# Altium footprint library 4.10-GH1.25连接器.PcbLib: 32 footprints (part 1 of 2)
Each footprint in its own frame and in the unit in brackets; x right, y up, seen from the top. Pads: shape width x height; smd on the part's side, far side on the other; paste and mask are expansions set on the pad; w line width, h text height; cw(c..) or ccw(c..) is an arc to the next point about the centre after c.
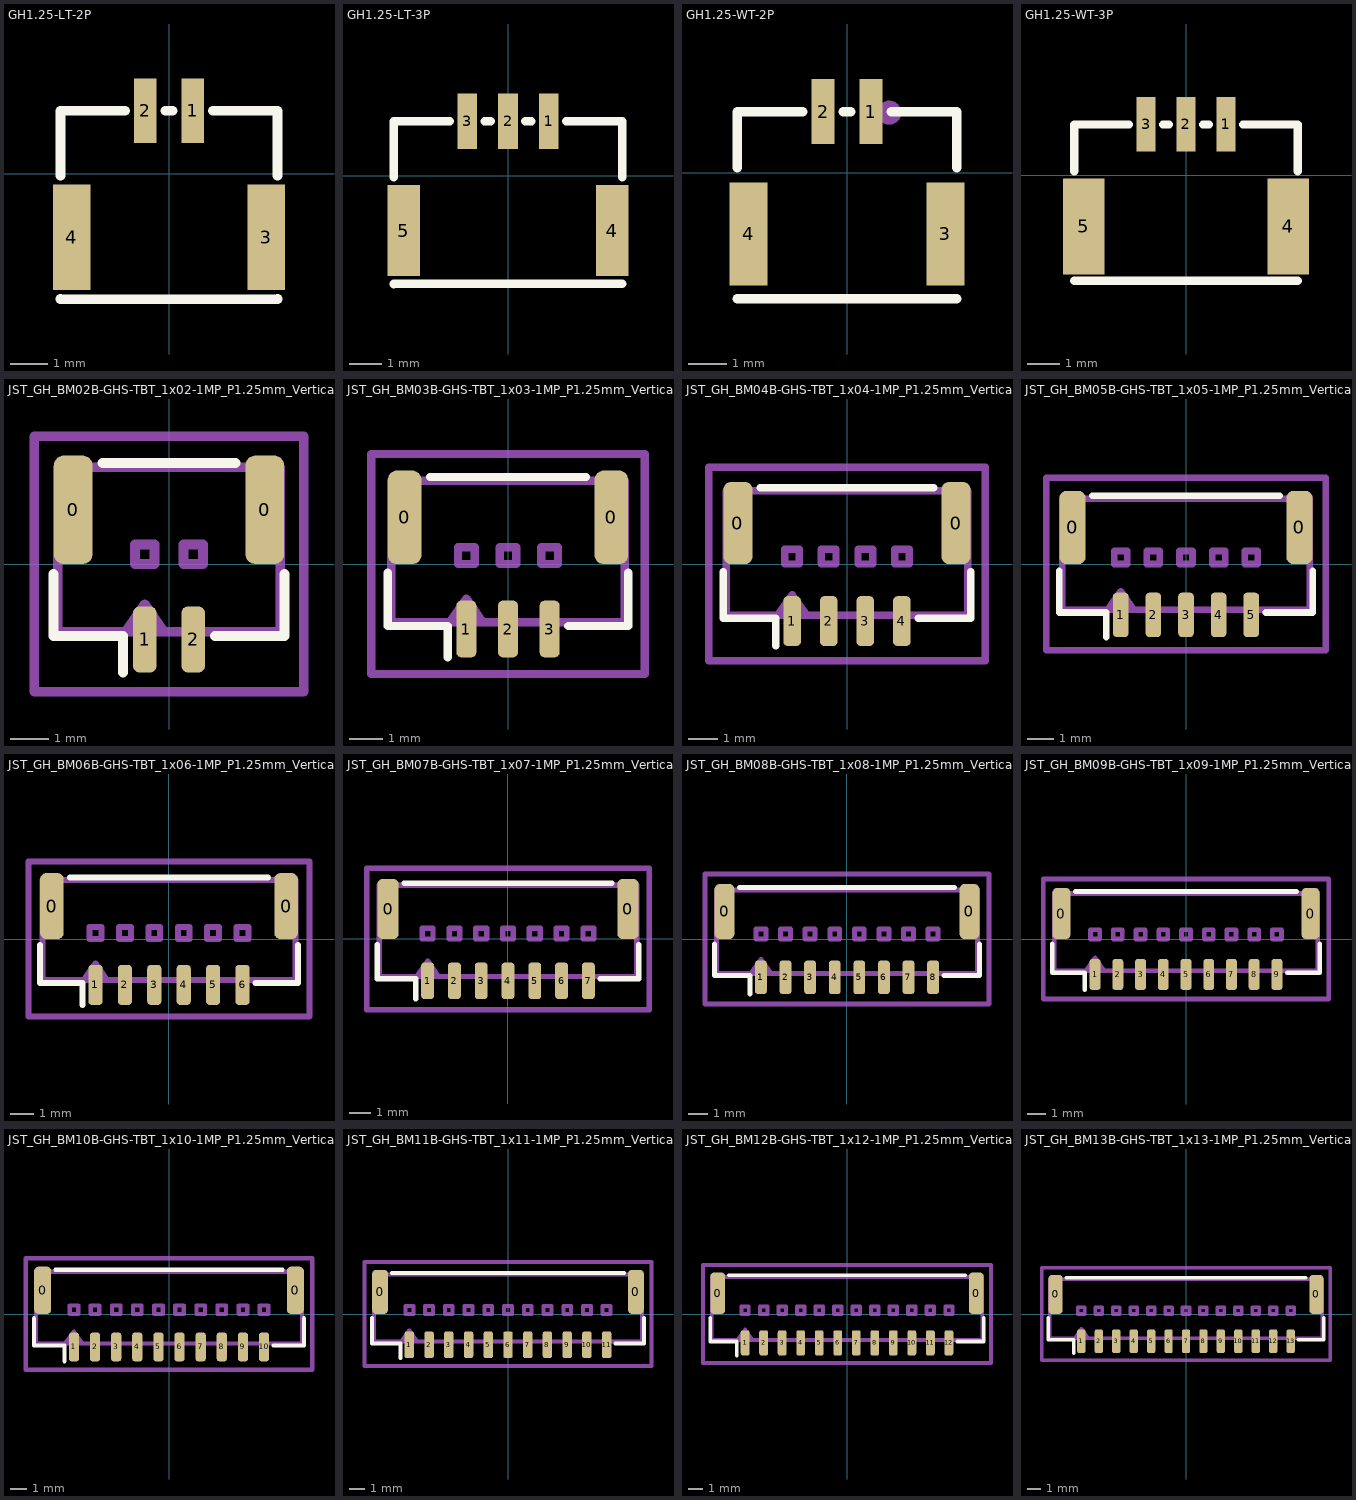
[diagram p0: the footprints below, top view; thin cyan lines are the x and y axes]

## GH1.25-LT-2P [mm] "GH1.25 2P 立贴插座                   联系卖家 免费查找封装"
pads (4):
  rect 0.6x1.7 smd: 1(0.625,1.675) 2(-0.625,1.675)
  rect 1x2.8 smd: 3(2.575,-1.675) 4(-2.575,-1.675)
Top Overlay:
  lines w0.254: -2.875,-3.306 -2.875,-3.325 2.875,-3.325 2.875,-3.306 ; -2.875,-0.044 -2.875,1.675 -1.156,1.675 ; -0.094,1.675 0.094,1.675 ; 1.156,1.675 2.875,1.675 2.875,-0.044
3D body "GH1.25-LT-2P.stp": height 4.06, standoff 0, extent -2.875,-2.884 2.875,2.076

## GH1.25-LT-3P [mm] "GH1.25 3P 立贴插座                   联系卖家 免费查找封装"
pads (5):
  rect 0.6x1.7 smd: 1(1.25,1.675) 2(0,1.675) 3(-1.25,1.675)
  rect 1x2.8 smd: 4(3.2,-1.675) 5(-3.2,-1.675)
Top Overlay:
  lines w0.254: -3.5,-3.325 -3.5,-3.306 3.5,-3.306 ; -3.5,-0.044 -3.5,1.675 -1.781,1.675 ; -0.719,1.675 -0.531,1.675 ; 0.531,1.675 0.719,1.675 ; 1.781,1.675 3.5,1.675 3.5,-0.044
3D body "GH1.25-LT-3P.stp": height 4.06, standoff 0, extent -3.5,-2.881 3.5,2.079

## GH1.25-WT-2P [mm] "GH1.25 2P 卧贴插座                   联系卖家 免费查找封装"
pads (4):
  rect 0.6x1.7 smd: 1(0.625,1.6) 2(-0.625,1.6)
  rect 1x2.7 smd: 3(2.575,-1.6) 4(-2.575,-1.6)
Top Overlay:
  lines w0.254: -2.875,-3.3 2.875,-3.3 ; -2.875,0.131 -2.875,1.6 -1.156,1.6 ; -0.094,1.6 0.094,1.6 ; 1.156,1.6 2.875,1.6 2.875,0.131
Mechanical 15:
  circle w0.254: c1.105,1.574 r0.187
3D body "GH1.25-WT-2P.stp": height 4.26, standoff 0, extent -2.874,-2.856 2.875,2.003

## GH1.25-WT-3P [mm] "GH1.25 2P 卧贴插座                   联系卖家 免费查找封装"
pads (5):
  rect 0.6x1.7 smd: 1(1.25,1.6) 2(0,1.6) 3(-1.25,1.6)
  rect 1.3x3 smd: 4(3.2,-1.6) 5(-3.2,-1.6)
Top Overlay:
  lines w0.254: -3.5,-3.3 3.5,-3.3 ; -3.5,0.131 -3.5,1.6 -1.781,1.6 ; -0.719,1.6 -0.531,1.6 ; 0.531,1.6 0.719,1.6 ; 1.78,1.6 3.5,1.6 3.5,0.131
3D body "GH1.25-WT-3P.stp": height 4.26, standoff 0, extent -3.499,-2.856 3.499,2.003

## JST_GH_BM02B-GHS-TBT_1x02-1MP_P1.25mm_Vertical [mm]
pads (4):
  rrect50% 1x2.8 smd paste+0 mask+0: 0(-2.475,1.4) 0(2.475,1.4)
  rrect50% 0.6x1.7 smd paste+0 mask+0: 1(-0.625,-1.95) 2(0.625,-1.95)
Top Overlay:
  lines w0.254: -2.985,-0.26 -2.985,-1.86 -1.185,-1.86 -1.185,-2.8 ; -1.715,2.61 1.715,2.61 ; 1.185,-1.86 2.985,-1.86 2.985,-0.26
Mechanical 6:
  lines w0.254: -3.48,-3.3 3.48,-3.3 3.48,3.3 -3.48,3.3 -3.48,-3.3
Mechanical 15:
  lines w0.254: -1.125,-1.75 -0.625,-1.043 -0.125,-1.75 ; -2.875,-1.75 2.875,-1.75 2.875,2.5 -2.875,2.5 -2.875,-1.75 ; -0.875,0 -0.375,0 -0.375,0.5 -0.875,0.5 -0.875,0 ; 0.375,0 0.875,0 0.875,0.5 0.375,0.5 0.375,0

## JST_GH_BM03B-GHS-TBT_1x03-1MP_P1.25mm_Vertical [mm]
pads (5):
  rrect50% 1x2.8 smd paste+0 mask+0: 0(-3.1,1.4) 0(3.1,1.4)
  rrect50% 0.6x1.7 smd paste+0 mask+0: 1(-1.25,-1.95) 2(0,-1.95) 3(1.25,-1.95)
Top Overlay:
  lines w0.254: -3.61,-0.26 -3.61,-1.86 -1.81,-1.86 -1.81,-2.8 ; -2.34,2.61 2.34,2.61 ; 1.81,-1.86 3.61,-1.86 3.61,-0.26
Mechanical 6:
  lines w0.254: -4.1,-3.3 -4.1,3.3 4.1,3.3 4.1,-3.3 -4.1,-3.3
Mechanical 15:
  lines w0.254: -1.75,-1.75 -1.25,-1.043 -0.75,-1.75 ; -3.5,-1.75 -3.5,2.5 3.5,2.5 3.5,-1.75 -3.5,-1.75 ; -1.5,0 -1.5,0.5 -1,0.5 -1,0 -1.5,0 ; -0.25,0 -0.25,0.5 0.25,0.5 0.25,0 -0.25,0 ; 1,0 1,0.5 1.5,0.5 1.5,0 1,0

## JST_GH_BM04B-GHS-TBT_1x04-1MP_P1.25mm_Vertical [mm]
pads (6):
  rrect50% 1x2.8 smd paste+0 mask+0: 0(-3.725,1.4) 0(3.725,1.4)
  rrect50% 0.6x1.7 smd paste+0 mask+0: 1(-1.875,-1.95) 2(-0.625,-1.95) 3(0.625,-1.95) 4(1.875,-1.95)
Top Overlay:
  lines w0.254: -4.235,-0.26 -4.235,-1.86 -2.435,-1.86 -2.435,-2.8 ; -2.965,2.61 2.965,2.61 ; 2.435,-1.86 4.235,-1.86 4.235,-0.26
Mechanical 6:
  lines w0.254: -4.72,-3.3 -4.72,3.3 4.72,3.3 4.72,-3.3 -4.72,-3.3
Mechanical 15:
  lines w0.254: -2.375,-1.75 -1.875,-1.043 -1.375,-1.75 ; -4.125,-1.75 -4.125,2.5 4.125,2.5 4.125,-1.75 -4.125,-1.75 ; -2.125,0 -2.125,0.5 -1.625,0.5 -1.625,0 -2.125,0 ; -0.875,0 -0.875,0.5 -0.375,0.5 -0.375,0 -0.875,0 ; 0.375,0 0.375,0.5 0.875,0.5 0.875,0 0.375,0 ; 1.625,0 1.625,0.5 2.125,0.5 2.125,0 1.625,0

## JST_GH_BM05B-GHS-TBT_1x05-1MP_P1.25mm_Vertical [mm]
pads (7):
  rrect50% 1x2.8 smd paste+0 mask+0: 0(-4.35,1.4) 0(4.35,1.4)
  rrect50% 0.6x1.7 smd paste+0 mask+0: 1(-2.5,-1.95) 2(-1.25,-1.95) 3(0,-1.95) 4(1.25,-1.95) 5(2.5,-1.95)
Top Overlay:
  lines w0.254: -4.86,-0.26 -4.86,-1.86 -3.06,-1.86 -3.06,-2.8 ; -3.59,2.61 3.59,2.61 ; 3.06,-1.86 4.86,-1.86 4.86,-0.26
Mechanical 6:
  lines w0.254: -5.35,-3.3 -5.35,3.3 5.35,3.3 5.35,-3.3 -5.35,-3.3
Mechanical 15:
  lines w0.254: -3,-1.75 -2.5,-1.043 -2,-1.75 ; -4.75,-1.75 -4.75,2.5 4.75,2.5 4.75,-1.75 -4.75,-1.75 ; -2.75,0 -2.75,0.5 -2.25,0.5 -2.25,0 -2.75,0 ; -1.5,0 -1.5,0.5 -1,0.5 -1,0 -1.5,0 ; -0.25,0 -0.25,0.5 0.25,0.5 0.25,0 -0.25,0 ; 1,0 1,0.5 1.5,0.5 1.5,0 1,0 ; 2.25,0 2.25,0.5 2.75,0.5 2.75,0 2.25,0

## JST_GH_BM06B-GHS-TBT_1x06-1MP_P1.25mm_Vertical [mm]
pads (8):
  rrect50% 1x2.8 smd paste+0 mask+0: 0(-4.975,1.4) 0(4.975,1.4)
  rrect50% 0.6x1.7 smd paste+0 mask+0: 1(-3.125,-1.95) 2(-1.875,-1.95) 3(-0.625,-1.95) 4(0.625,-1.95) 5(1.875,-1.95) 6(3.125,-1.95)
Top Overlay:
  lines w0.254: -5.485,-0.26 -5.485,-1.86 -3.685,-1.86 -3.685,-2.8 ; -4.215,2.61 4.215,2.61 ; 3.685,-1.86 5.485,-1.86 5.485,-0.26
Mechanical 6:
  lines w0.254: -5.98,-3.3 -5.98,3.3 5.98,3.3 5.98,-3.3 -5.98,-3.3
Mechanical 15:
  lines w0.254: -3.625,-1.75 -3.125,-1.043 -2.625,-1.75 ; -5.375,-1.75 -5.375,2.5 5.375,2.5 5.375,-1.75 -5.375,-1.75 ; -3.375,0 -3.375,0.5 -2.875,0.5 -2.875,0 -3.375,0 ; -2.125,0 -2.125,0.5 -1.625,0.5 -1.625,0 -2.125,0 ; -0.875,0 -0.875,0.5 -0.375,0.5 -0.375,0 -0.875,0 ; 0.375,0 0.375,0.5 0.875,0.5 0.875,0 0.375,0 ; 1.625,0 1.625,0.5 2.125,0.5 2.125,0 1.625,0 ; 2.875,0 2.875,0.5 3.375,0.5 3.375,0 2.875,0

## JST_GH_BM07B-GHS-TBT_1x07-1MP_P1.25mm_Vertical [mm]
pads (9):
  rrect50% 1x2.8 smd paste+0 mask+0: 0(-5.6,1.4) 0(5.6,1.4)
  rrect50% 0.6x1.7 smd paste+0 mask+0: 1(-3.75,-1.95) 2(-2.5,-1.95) 3(-1.25,-1.95) 4(0,-1.95) 5(1.25,-1.95) 6(2.5,-1.95) 7(3.75,-1.95)
Top Overlay:
  lines w0.254: -6.11,-0.26 -6.11,-1.86 -4.31,-1.86 -4.31,-2.8 ; -4.84,2.61 4.84,2.61 ; 4.31,-1.86 6.11,-1.86 6.11,-0.26
Mechanical 6:
  lines w0.254: -6.6,-3.3 -6.6,3.3 6.6,3.3 6.6,-3.3 -6.6,-3.3
Mechanical 15:
  lines w0.254: -4.25,-1.75 -3.75,-1.043 -3.25,-1.75 ; -6,-1.75 -6,2.5 6,2.5 6,-1.75 -6,-1.75 ; -4,0 -4,0.5 -3.5,0.5 -3.5,0 -4,0 ; -2.75,0 -2.75,0.5 -2.25,0.5 -2.25,0 -2.75,0 ; -1.5,0 -1.5,0.5 -1,0.5 -1,0 -1.5,0 ; -0.25,0 -0.25,0.5 0.25,0.5 0.25,0 -0.25,0 ; 1,0 1,0.5 1.5,0.5 1.5,0 1,0 ; 2.25,0 2.25,0.5 2.75,0.5 2.75,0 2.25,0 ; 3.5,0 3.5,0.5 4,0.5 4,0 3.5,0

## JST_GH_BM08B-GHS-TBT_1x08-1MP_P1.25mm_Vertical [mm]
pads (10):
  rrect50% 1x2.8 smd paste+0 mask+0: 0(-6.225,1.4) 0(6.225,1.4)
  rrect50% 0.6x1.7 smd paste+0 mask+0: 1(-4.375,-1.95) 2(-3.125,-1.95) 3(-1.875,-1.95) 4(-0.625,-1.95) 5(0.625,-1.95) 6(1.875,-1.95) 7(3.125,-1.95) 8(4.375,-1.95)
Top Overlay:
  lines w0.254: -6.735,-0.26 -6.735,-1.86 -4.935,-1.86 -4.935,-2.8 ; -5.465,2.61 5.465,2.61 ; 4.935,-1.86 6.735,-1.86 6.735,-0.26
Mechanical 6:
  lines w0.254: -7.22,-3.3 -7.22,3.3 7.22,3.3 7.22,-3.3 -7.22,-3.3
Mechanical 15:
  lines w0.254: -4.875,-1.75 -4.375,-1.043 -3.875,-1.75 ; -6.625,-1.75 -6.625,2.5 6.625,2.5 6.625,-1.75 -6.625,-1.75 ; -4.625,0 -4.625,0.5 -4.125,0.5 -4.125,0 -4.625,0 ; -3.375,0 -3.375,0.5 -2.875,0.5 -2.875,0 -3.375,0 ; -2.125,0 -2.125,0.5 -1.625,0.5 -1.625,0 -2.125,0 ; -0.875,0 -0.875,0.5 -0.375,0.5 -0.375,0 -0.875,0 ; 0.375,0 0.375,0.5 0.875,0.5 0.875,0 0.375,0 ; 1.625,0 1.625,0.5 2.125,0.5 2.125,0 1.625,0 ; 2.875,0 2.875,0.5 3.375,0.5 3.375,0 2.875,0 ; 4.125,0 4.125,0.5 4.625,0.5 4.625,0 4.125,0

## JST_GH_BM09B-GHS-TBT_1x09-1MP_P1.25mm_Vertical [mm]
pads (11):
  rrect50% 1x2.8 smd paste+0 mask+0: 0(-6.85,1.4) 0(6.85,1.4)
  rrect50% 0.6x1.7 smd paste+0 mask+0: 1(-5,-1.95) 2(-3.75,-1.95) 3(-2.5,-1.95) 4(-1.25,-1.95) 5(0,-1.95) 6(1.25,-1.95) 7(2.5,-1.95) 8(3.75,-1.95) 9(5,-1.95)
Top Overlay:
  lines w0.254: -7.36,-0.26 -7.36,-1.86 -5.56,-1.86 -5.56,-2.8 ; -6.09,2.61 6.09,2.61 ; 5.56,-1.86 7.36,-1.86 7.36,-0.26
Mechanical 6:
  lines w0.254: -7.85,-3.3 -7.85,3.3 7.85,3.3 7.85,-3.3 -7.85,-3.3
Mechanical 15:
  lines w0.254: -5.5,-1.75 -5,-1.043 -4.5,-1.75 ; -7.25,-1.75 -7.25,2.5 7.25,2.5 7.25,-1.75 -7.25,-1.75 ; -5.25,0 -5.25,0.5 -4.75,0.5 -4.75,0 -5.25,0 ; -4,0 -4,0.5 -3.5,0.5 -3.5,0 -4,0 ; -2.75,0 -2.75,0.5 -2.25,0.5 -2.25,0 -2.75,0 ; -1.5,0 -1.5,0.5 -1,0.5 -1,0 -1.5,0 ; -0.25,0 -0.25,0.5 0.25,0.5 0.25,0 -0.25,0 ; 1,0 1,0.5 1.5,0.5 1.5,0 1,0 ; 2.25,0 2.25,0.5 2.75,0.5 2.75,0 2.25,0 ; 3.5,0 3.5,0.5 4,0.5 4,0 3.5,0 ; 4.75,0 4.75,0.5 5.25,0.5 5.25,0 4.75,0

## JST_GH_BM10B-GHS-TBT_1x10-1MP_P1.25mm_Vertical [mm]
pads (12):
  rrect50% 1x2.8 smd paste+0 mask+0: 0(-7.475,1.4) 0(7.475,1.4)
  rrect50% 0.6x1.7 smd paste+0 mask+0: 1(-5.625,-1.95) 2(-4.375,-1.95) 3(-3.125,-1.95) 4(-1.875,-1.95) 5(-0.625,-1.95) 6(0.625,-1.95) 7(1.875,-1.95) 8(3.125,-1.95) 9(4.375,-1.95) 10(5.625,-1.95)
Top Overlay:
  lines w0.254: -7.985,-0.26 -7.985,-1.86 -6.185,-1.86 -6.185,-2.8 ; -6.715,2.61 6.715,2.61 ; 6.185,-1.86 7.985,-1.86 7.985,-0.26
Mechanical 6:
  lines w0.254: -8.48,-3.3 -8.48,3.3 8.48,3.3 8.48,-3.3 -8.48,-3.3
Mechanical 15:
  lines w0.254: -6.125,-1.75 -5.625,-1.043 -5.125,-1.75 ; -7.875,-1.75 -7.875,2.5 7.875,2.5 7.875,-1.75 -7.875,-1.75 ; -5.875,0 -5.875,0.5 -5.375,0.5 -5.375,0 -5.875,0 ; -4.625,0 -4.625,0.5 -4.125,0.5 -4.125,0 -4.625,0 ; -3.375,0 -3.375,0.5 -2.875,0.5 -2.875,0 -3.375,0 ; -2.125,0 -2.125,0.5 -1.625,0.5 -1.625,0 -2.125,0 ; -0.875,0 -0.875,0.5 -0.375,0.5 -0.375,0 -0.875,0 ; 0.375,0 0.375,0.5 0.875,0.5 0.875,0 0.375,0 ; 1.625,0 1.625,0.5 2.125,0.5 2.125,0 1.625,0 ; 2.875,0 2.875,0.5 3.375,0.5 3.375,0 2.875,0 ; 4.125,0 4.125,0.5 4.625,0.5 4.625,0 4.125,0 ; 5.375,0 5.375,0.5 5.875,0.5 5.875,0 5.375,0

## JST_GH_BM11B-GHS-TBT_1x11-1MP_P1.25mm_Vertical [mm]
pads (13):
  rrect50% 1x2.8 smd paste+0 mask+0: 0(-8.1,1.4) 0(8.1,1.4)
  rrect50% 0.6x1.7 smd paste+0 mask+0: 1(-6.25,-1.95) 2(-5,-1.95) 3(-3.75,-1.95) 4(-2.5,-1.95) 5(-1.25,-1.95) 6(0,-1.95) 7(1.25,-1.95) 8(2.5,-1.95) 9(3.75,-1.95) 10(5,-1.95) 11(6.25,-1.95)
Top Overlay:
  lines w0.254: -8.61,-0.26 -8.61,-1.86 -6.81,-1.86 -6.81,-2.8 ; -7.34,2.61 7.34,2.61 ; 6.81,-1.86 8.61,-1.86 8.61,-0.26
Mechanical 6:
  lines w0.254: -9.1,-3.3 -9.1,3.3 9.1,3.3 9.1,-3.3 -9.1,-3.3
Mechanical 15:
  lines w0.254: -6.75,-1.75 -6.25,-1.043 -5.75,-1.75 ; -8.5,-1.75 -8.5,2.5 8.5,2.5 8.5,-1.75 -8.5,-1.75 ; -6.5,0 -6.5,0.5 -6,0.5 -6,0 -6.5,0 ; -5.25,0 -5.25,0.5 -4.75,0.5 -4.75,0 -5.25,0 ; -4,0 -4,0.5 -3.5,0.5 -3.5,0 -4,0 ; -2.75,0 -2.75,0.5 -2.25,0.5 -2.25,0 -2.75,0 ; -1.5,0 -1.5,0.5 -1,0.5 -1,0 -1.5,0 ; -0.25,0 -0.25,0.5 0.25,0.5 0.25,0 -0.25,0 ; 1,0 1,0.5 1.5,0.5 1.5,0 1,0 ; 2.25,0 2.25,0.5 2.75,0.5 2.75,0 2.25,0 ; 3.5,0 3.5,0.5 4,0.5 4,0 3.5,0 ; 4.75,0 4.75,0.5 5.25,0.5 5.25,0 4.75,0 ; 6,0 6,0.5 6.5,0.5 6.5,0 6,0

## JST_GH_BM12B-GHS-TBT_1x12-1MP_P1.25mm_Vertical [mm]
pads (14):
  rrect50% 1x2.8 smd paste+0 mask+0: 0(-8.725,1.4) 0(8.725,1.4)
  rrect50% 0.6x1.7 smd paste+0 mask+0: 1(-6.875,-1.95) 2(-5.625,-1.95) 3(-4.375,-1.95) 4(-3.125,-1.95) 5(-1.875,-1.95) 6(-0.625,-1.95) 7(0.625,-1.95) 8(1.875,-1.95) 9(3.125,-1.95) 10(4.375,-1.95) 11(5.625,-1.95) 12(6.875,-1.95)
Top Overlay:
  lines w0.254: -9.235,-0.26 -9.235,-1.86 -7.435,-1.86 -7.435,-2.8 ; -7.965,2.61 7.965,2.61 ; 7.435,-1.86 9.235,-1.86 9.235,-0.26
Mechanical 6:
  lines w0.254: -9.72,-3.3 -9.72,3.3 9.72,3.3 9.72,-3.3 -9.72,-3.3
Mechanical 15:
  lines w0.254: -7.375,-1.75 -6.875,-1.043 -6.375,-1.75 ; -9.125,-1.75 -9.125,2.5 9.125,2.5 9.125,-1.75 -9.125,-1.75 ; -7.125,0 -7.125,0.5 -6.625,0.5 -6.625,0 -7.125,0 ; -5.875,0 -5.875,0.5 -5.375,0.5 -5.375,0 -5.875,0 ; -4.625,0 -4.625,0.5 -4.125,0.5 -4.125,0 -4.625,0 ; -3.375,0 -3.375,0.5 -2.875,0.5 -2.875,0 -3.375,0 ; -2.125,0 -2.125,0.5 -1.625,0.5 -1.625,0 -2.125,0 ; -0.875,0 -0.875,0.5 -0.375,0.5 -0.375,0 -0.875,0 ; 0.375,0 0.375,0.5 0.875,0.5 0.875,0 0.375,0 ; 1.625,0 1.625,0.5 2.125,0.5 2.125,0 1.625,0 ; 2.875,0 2.875,0.5 3.375,0.5 3.375,0 2.875,0 ; 4.125,0 4.125,0.5 4.625,0.5 4.625,0 4.125,0 ; 5.375,0 5.375,0.5 5.875,0.5 5.875,0 5.375,0 ; 6.625,0 6.625,0.5 7.125,0.5 7.125,0 6.625,0

## JST_GH_BM13B-GHS-TBT_1x13-1MP_P1.25mm_Vertical [mm]
pads (15):
  rrect50% 1x2.8 smd paste+0 mask+0: 0(-9.35,1.4) 0(9.35,1.4)
  rrect50% 0.6x1.7 smd paste+0 mask+0: 1(-7.5,-1.95) 2(-6.25,-1.95) 3(-5,-1.95) 4(-3.75,-1.95) 5(-2.5,-1.95) 6(-1.25,-1.95) 7(0,-1.95) 8(1.25,-1.95) 9(2.5,-1.95) 10(3.75,-1.95) 11(5,-1.95) 12(6.25,-1.95) 13(7.5,-1.95)
Top Overlay:
  lines w0.254: -9.86,-0.26 -9.86,-1.86 -8.06,-1.86 -8.06,-2.8 ; -8.59,2.61 8.59,2.61 ; 8.06,-1.86 9.86,-1.86 9.86,-0.26
Mechanical 6:
  lines w0.254: -10.35,-3.3 10.35,-3.3 10.35,3.3 -10.35,3.3 -10.35,-3.3
Mechanical 15:
  lines w0.254: -8,-1.75 -7.5,-1.043 -7,-1.75 ; -9.75,-1.75 9.75,-1.75 9.75,2.5 -9.75,2.5 -9.75,-1.75 ; -7.75,0 -7.25,0 -7.25,0.5 -7.75,0.5 -7.75,0 ; -6.5,0 -6,0 -6,0.5 -6.5,0.5 -6.5,0 ; -5.25,0 -4.75,0 -4.75,0.5 -5.25,0.5 -5.25,0 ; -4,0 -3.5,0 -3.5,0.5 -4,0.5 -4,0 ; -2.75,0 -2.25,0 -2.25,0.5 -2.75,0.5 -2.75,0 ; -1.5,0 -1,0 -1,0.5 -1.5,0.5 -1.5,0 ; -0.25,0 0.25,0 0.25,0.5 -0.25,0.5 -0.25,0 ; 1,0 1.5,0 1.5,0.5 1,0.5 1,0 ; 2.25,0 2.75,0 2.75,0.5 2.25,0.5 2.25,0 ; 3.5,0 4,0 4,0.5 3.5,0.5 3.5,0 ; 4.75,0 5.25,0 5.25,0.5 4.75,0.5 4.75,0 ; 6,0 6.5,0 6.5,0.5 6,0.5 6,0 ; 7.25,0 7.75,0 7.75,0.5 7.25,0.5 7.25,0